# EAGLE library part AD7617 (library adc_dac)
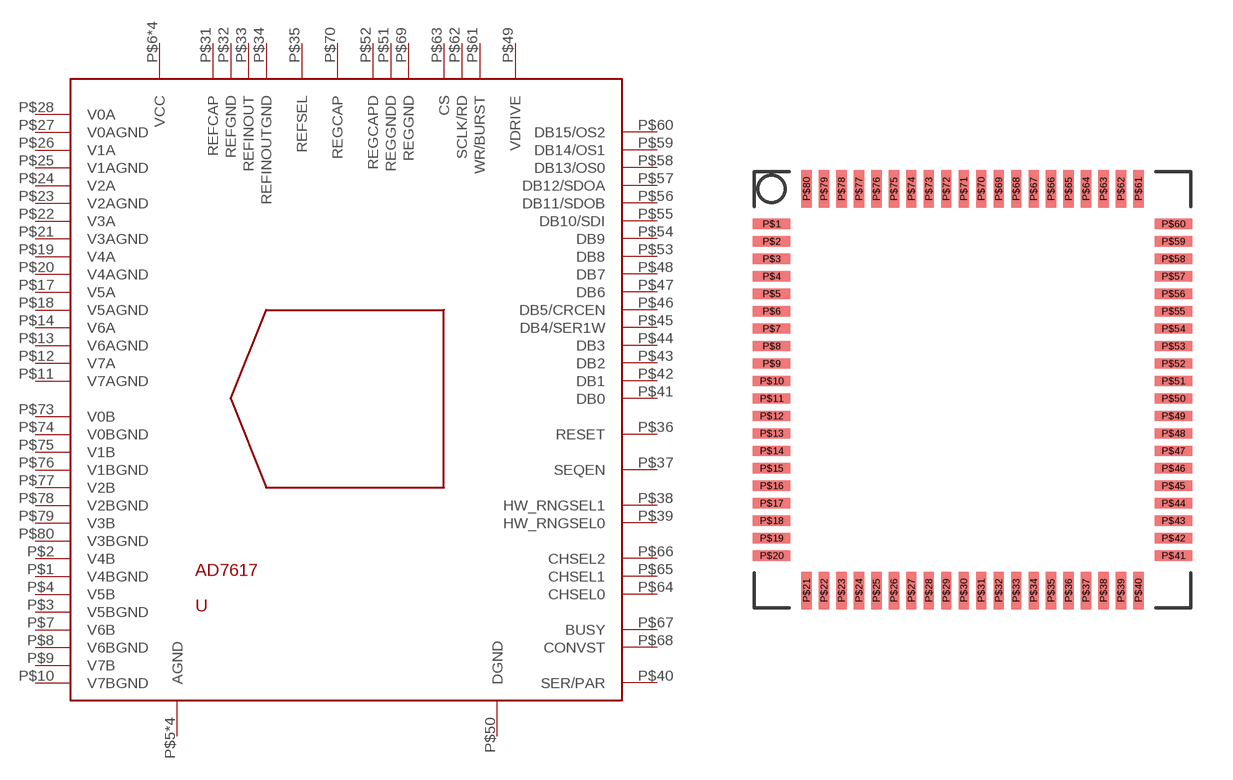
[diagram p0: symbol with the pads of LQFP_ST-80-2; footprint LQFP_ST-80-2]

Designator prefix -

## AD7617  [LQFP_ST-80-2]
P$1  V4BGND
P$2  V4B
P$3  V5BGND
P$4  V5B
P$5  AGND
P$6  VCC
P$7  V6B
P$8  V6BGND
P$9  V7B
P$10  V7BGND
P$11  V7AGND
P$12  V7A
P$13  V6AGND
P$14  V6A
P$15  VCC
P$16  AGND
P$17  V5A
P$18  V5AGND
P$19  V4A
P$20  V4AGND
P$21  V3AGND
P$22  V3A
P$23  V2AGND
P$24  V2A
P$25  V1AGND
P$26  V1A
P$27  V0AGND
P$28  V0A
P$29  AGND
P$30  VCC
P$31  REFCAP
P$32  REFGND
P$33  REFINOUT
P$34  REFINOUTGND
P$35  REFSEL
P$36  RESET
P$37  SEQEN
P$38  HW_RNGSEL1
P$39  HW_RNGSEL0
P$40  SER/PAR
P$41  DB0
P$42  DB1
P$43  DB2
P$44  DB3
P$45  DB4/SER1W
P$46  DB5/CRCEN
P$47  DB6
P$48  DB7
P$49  VDRIVE
P$50  DGND
P$51  REGGNDD
P$52  REGCAPD
P$53  DB8
P$54  DB9
P$55  DB10/SDI
P$56  DB11/SDOB
P$57  DB12/SDOA
P$58  DB13/OS0
P$59  DB14/OS1
P$60  DB15/OS2
P$61  WR/BURST
P$62  SCLK/RD
P$63  CS
P$64  CHSEL0
P$65  CHSEL1
P$66  CHSEL2
P$67  BUSY
P$68  CONVST
P$69  REGGND
P$70  REGCAP
P$71  VCC
P$72  AGND
P$73  V0B
P$74  V0BGND
P$75  V1B
P$76  V1BGND
P$77  V2B
P$78  V2BGND
P$79  V3B
P$80  V3BGND

## Footprint LQFP_ST-80-2 (pad centres in mm)
smd 1.4 x 0.38: P$1 -7.8,5.85; P$2 -7.8,5.2; P$3 -7.8,4.55; P$4 -7.8,3.9; P$5 -7.8,3.25; P$6 -7.8,2.6; P$7 -7.8,1.95; P$8 -7.8,1.3; P$9 -7.8,0.65; P$10 -7.8,0; P$11 -7.8,-0.65; P$12 -7.8,-1.3; P$13 -7.8,-1.95; P$14 -7.8,-2.6; P$15 -7.8,-3.25; P$16 -7.8,-3.9; P$17 -7.8,-4.55; P$18 -7.8,-5.2; P$19 -7.8,-5.85; P$20 -7.8,-6.5; P$41 7.15,-6.5; P$42 7.15,-5.85; P$43 7.15,-5.2; P$44 7.15,-4.55; P$45 7.15,-3.9; P$46 7.15,-3.25; P$47 7.15,-2.6; P$48 7.15,-1.95; P$49 7.15,-1.3; P$50 7.15,-0.65; P$51 7.15,0; P$52 7.15,0.65; P$53 7.15,1.3; P$54 7.15,1.95; P$55 7.15,2.6; P$56 7.15,3.25; P$57 7.15,3.9; P$58 7.15,4.55; P$59 7.15,5.2; P$60 7.15,5.85
smd 0.38 x 1.4: P$21 -6.5,-7.8; P$22 -5.85,-7.8; P$23 -5.2,-7.8; P$24 -4.55,-7.8; P$25 -3.9,-7.8; P$26 -3.25,-7.8; P$27 -2.6,-7.8; P$28 -1.95,-7.8; P$29 -1.3,-7.8; P$30 -0.65,-7.8; P$31 0,-7.8; P$32 0.65,-7.8; P$33 1.3,-7.8; P$34 1.95,-7.8; P$35 2.6,-7.8; P$36 3.25,-7.8; P$37 3.9,-7.8; P$38 4.55,-7.8; P$39 5.2,-7.8; P$40 5.85,-7.8; P$61 5.85,7.15; P$62 5.2,7.15; P$63 4.55,7.15; P$64 3.9,7.15; P$65 3.25,7.15; P$66 2.6,7.15; P$67 1.95,7.15; P$68 1.3,7.15; P$69 0.65,7.15; P$70 0,7.15; P$71 -0.65,7.15; P$72 -1.3,7.15; P$73 -1.95,7.15; P$74 -2.6,7.15; P$75 -3.25,7.15; P$76 -3.9,7.15; P$77 -4.55,7.15; P$78 -5.2,7.15; P$79 -5.85,7.15; P$80 -6.5,7.15